# Altium footprint library THS4551IDGKT.PcbLib: 2 footprints
Each footprint in its own frame and in the unit in brackets; x right, y up, seen from the top. Pads: shape width x height; smd on the part's side, far side on the other; paste and mask are expansions set on the pad; w line width, h text height; cw(c..) or ccw(c..) is an arc to the next point about the centre after c.
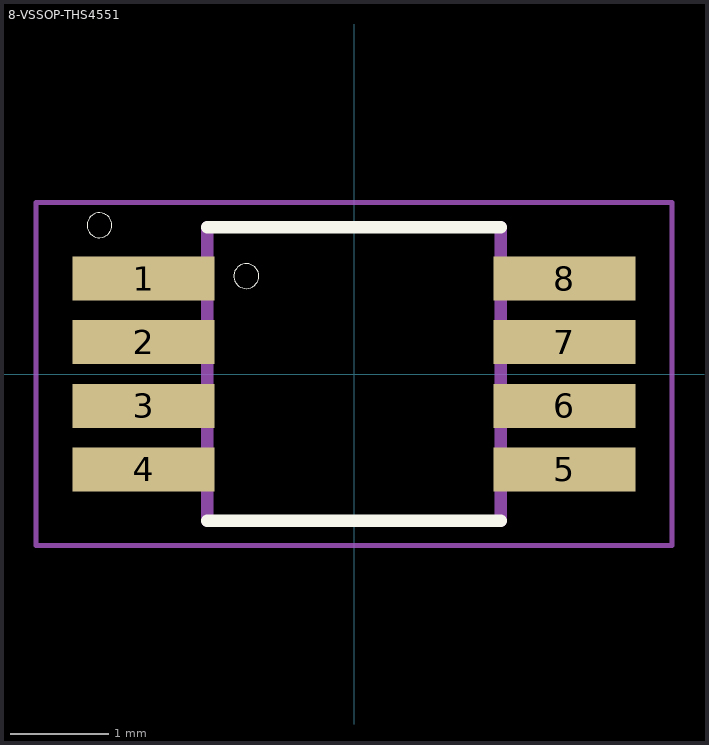
[diagram p0: the footprints below, top view; thin cyan lines are the x and y axes]

## 8-VSSOP-THS4551 [mm]
pads (8):
  rect 1.45x0.45 smd mask+0.051: 1(-2.15,0.975) 2(-2.15,0.325) 3(-2.15,-0.325) 4(-2.15,-0.975) 5(2.15,-0.975) 6(2.15,-0.325) 7(2.15,0.325) 8(2.15,0.975)
Top Overlay:
  circle w0: c-2.6,1.52 r0.127
  circle w0: c-1.1,1 r0.127
  lines w0.127: -1.5,-1.5 1.5,-1.5 ; -1.5,1.5 1.5,1.5
Mechanical 4:
  lines w0.127: -1.5,-1.5 -1.5,1.5 -1.5,-1.5 ; 1.5,-1.5 1.5,1.5 1.5,-1.5
Mechanical 16:
  lines w0.05: -3.25,-1.75 3.25,-1.75 3.25,1.75 -3.25,1.75 -3.25,-1.75
3D body "OPA2376AIDGKR--3DModel-STEP-56544.STEP": height 1.11, standoff -0.33, extent -2.481,-1.5 2.484,1.5

## PCBComponent_1 [mm]